# Altium footprint library Capacitor ceramico.PcbLib: 1 footprints
Each footprint in its own frame and in the unit in brackets; x right, y up, seen from the top. Pads: shape width x height; smd on the part's side, far side on the other; paste and mask are expansions set on the pad; w line width, h text height; cw(c..) or ccw(c..) is an arc to the next point about the centre after c.
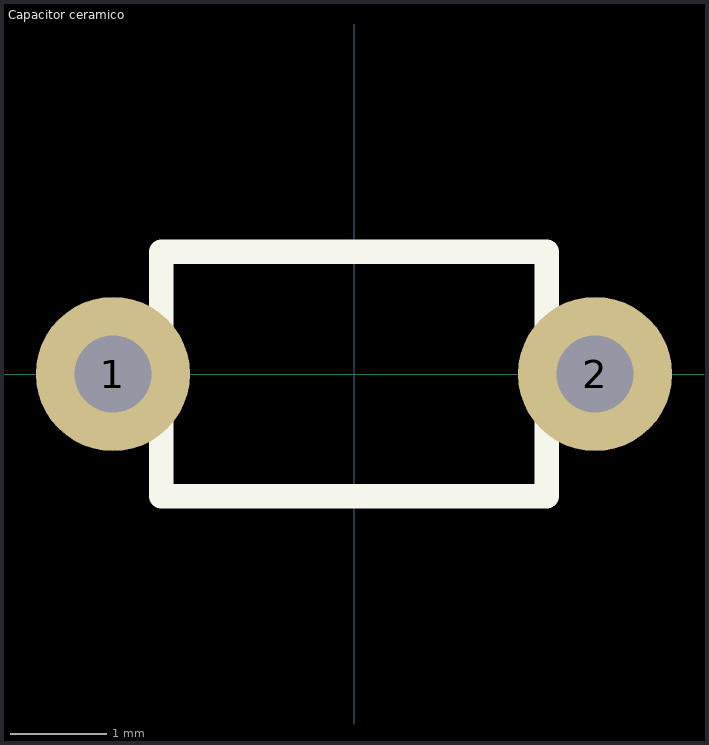
[diagram p0: the footprint, top view; thin cyan lines are the x and y axes]

## Capacitor ceramico [mm] "capacitor ceramico"
pads (2):
  round 1.6 hole 0.8: 1(-2.5,0) 2(2.5,0)
Top Overlay:
  lines w0.254: -2,-1.27 2,-1.27 2,1.27 -2,1.27 -2,-1.27
3D body "cdisk_p5x1_d6-75_th2-5.stp": height 8.24, standoff -3.5, extent -3.501,-1.729 3.575,1.905